# Altium schematic symbol library IntegratedCircuits.SchLib: 21 symbols
Pins are listed as number, name and electrical type; pins without a type are passive.

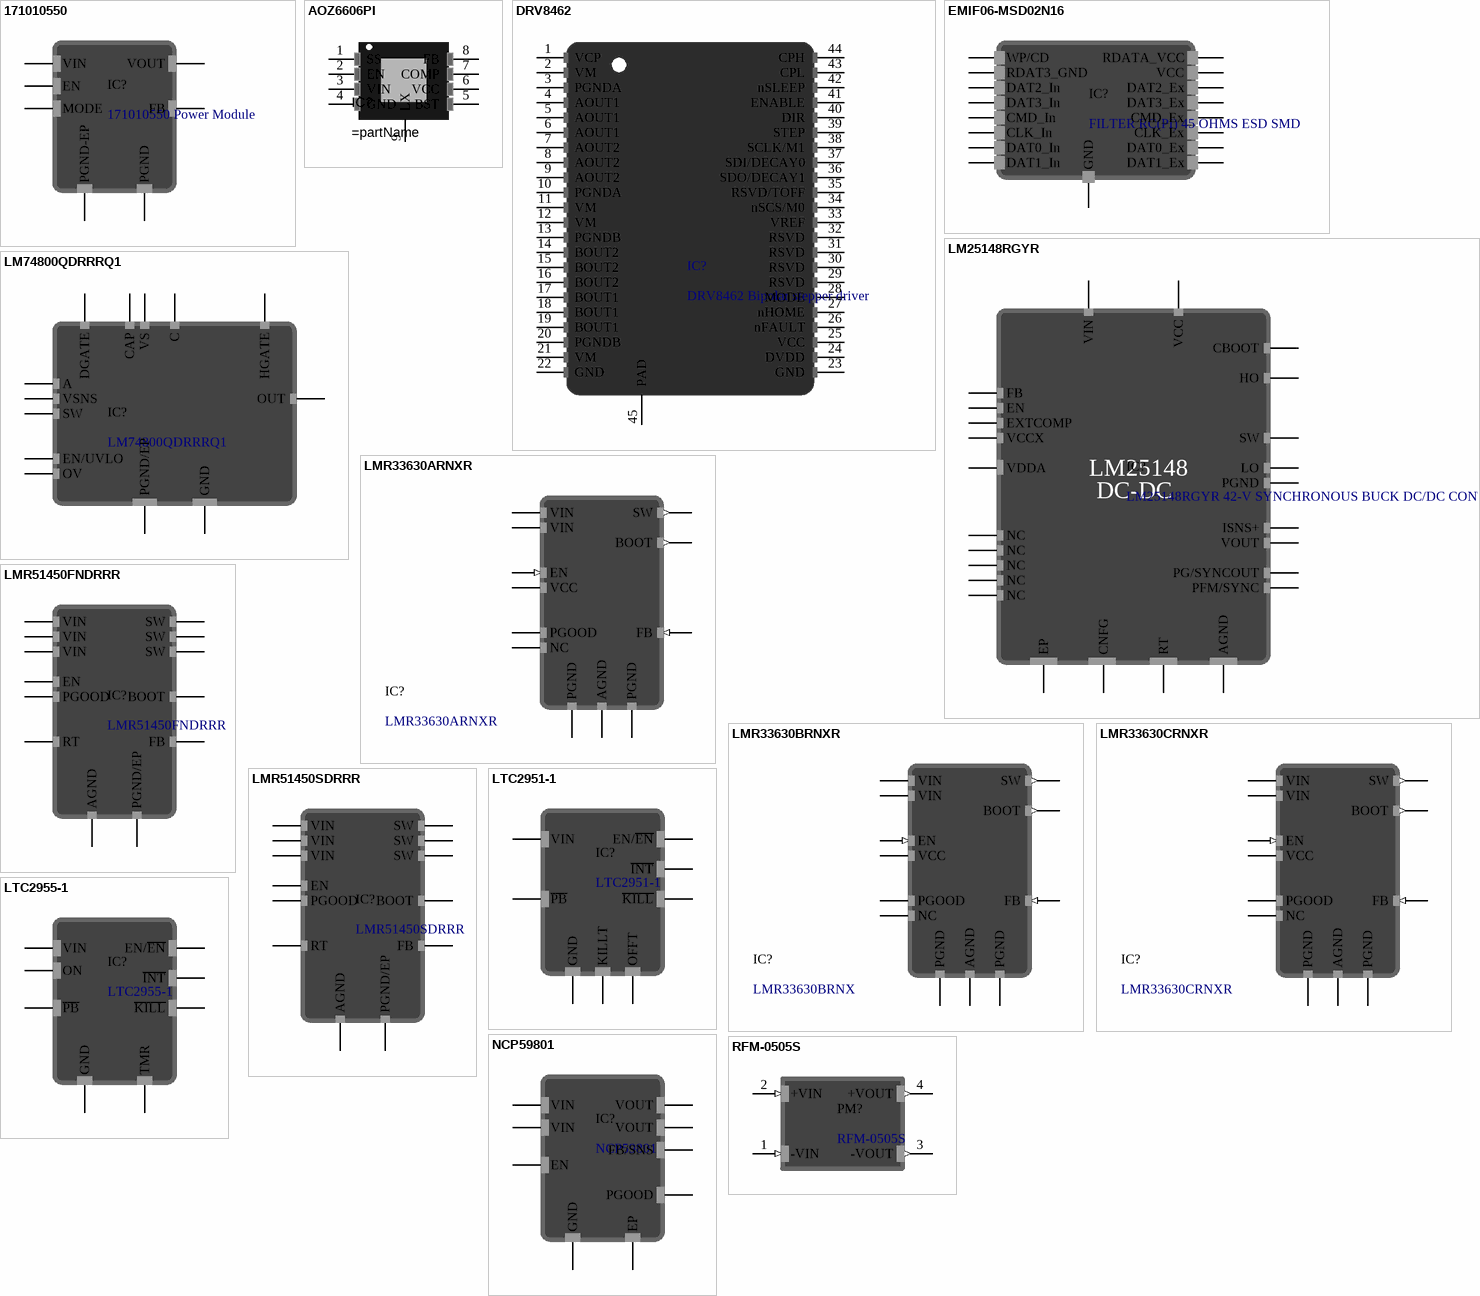
[diagram p0: symbols 171010550 to RFM-0505S]

## 171010550
designator IC?, comment 171010550 Power Module
Non-Isolated PoL Module DC DC Converter 1 Output 0.8 ~ 5.5V 1.2A 2.5V - 5.5V Input; DigiKey Part Number: 732-171010550CT-ND; Mouser Part Number: 710-171010550; ComponentLink1Description: DigiKey; ComponentLink1URL: https://www.digikey.com/en/products/detail/w%C3%BCrth-elektronik/171010550/10468263; ComponentLink2Description: Mouser; ComponentLink2URL: https://eu.mouser.com/ProductDetail/Wurth-Elektronik/171010550?qs=d0WKAl%252BL4KaovukkXP8RVA%3D%3D; Manufacturer Product Number: 171010550
footprint 171010550
pins: 1 FB, 2 MODE, 3 EN, 4 VIN, 5 PGND, 6 VOUT, EP PGND-EP

## AOZ6606PI
designator IC?
Buck Switching Regulator IC Positive Adjustable 0.8V 1 Output 6A 8-SOIC (0.154", 3.90mm Width) Exposed Pad; Manufacturer Product Number: AOZ6606PI; DigiKey Part Number: 785-1854-1-ND; ComponentLink1Description: DigiKey; ComponentLink1URL: https://www.digikey.com/en/products/detail/alpha-omega-semiconductor-inc/AOZ6606PI/10258150?s=N4IgTCBcDaIIIHkBaA2FAGFAFAkiAugL5A
footprint SOP127P600X170_HS-9N (SOP, 8-Leads, Body 4.90x3.90mm, Pitch 1.27mm, Thermal Pad 3.60x2.61mm, IPC Medium Density)
pins: 1 SS, 2 EN, 3 VIN, 4 GND, 5 BST, 6 VCC, 7 COMP, 8 FB, 9 LX

## DRV8462
designator IC?, comment DRV8462 Bipolar stepper driver
65-V, 10-A, DUAL H-BRIDGE STEPPER DRIVER; Manufacturer Product Number: DRV8462DDWR; Digikey part number: 296-DRV8462DDWRTR-ND; ComponentLink1Description: DigiKey; ComponentLink1URL: https://www.digikey.com/en/products/detail/texas-instruments/DRV8462DDWR/17395001?s=N4IgTCBcDaICYCcBuAOALANggXQL5A; Mouser part number: 595-DRV8462DDWR; ComponentLink2Description: Mouser; ComponentLink2URL: https://eu.mouser.com/ProductDetail/Texas-Instruments/DRV8462DDWR?qs=rQFj71Wb1eVexvYNsDfnvA%3D%3D; ComponentLink3Description: datasheet; ComponentLink3URL: https://www.ti.com/lit/ds/symlink/drv8462.pdf
footprint TSOP64P810X120_HS-45N (TSOP, 44-Leads, Body 14.00x6.10mm, Pitch 0.64mm, Thermal Pad 8.00x3.80mm, IPC Medium Density)
pins: 1 VCP, 2 VM, 3 PGNDA, 4 AOUT1, 5 AOUT1, 6 AOUT1, 7 AOUT2, 8 AOUT2, 9 AOUT2, 10 PGNDA, 11 VM, 12 VM, 13 PGNDB, 14 BOUT2, 15 BOUT2, 16 BOUT2, 17 BOUT1, 18 BOUT1, 19 BOUT1, 20 PGNDB, 21 VM, 22 GND, 23 GND, 24 DVDD, 25 VCC, 26 nFAULT, 27 nHOME, 28 MODE, 29 RSVD, 30 RSVD, 31 RSVD, 32 RSVD, 33 VREF, 34 nSCS/M0, 35 RSVD/TOFF, 36 SDO/DECAY1, 37 SDI/DECAY0, 38 SCLK/M1, 39 STEP, 40 DIR, 41 ENABLE, 42 nSLEEP, 43 CPL, 44 CPH, 45 PAD

## EMIF06-MSD02N16
designator IC?, comment FILTER RC(PI) 45 OHMS ESD SMD
RC (Pi) EMI Filter 2nd Order Low Pass 6 Channel R = 45Ohms, C = 20pF (Total) 16-UFDFN Exposed Pad; Manufacturer Product Number: EMIF06-MSD02N16; Digikey Part Number: 497-8751-1-ND; ComponentLink1Description: DigiKey; ComponentLink1URL: https://www.digikey.com/en/products/detail/stmicroelectronics/EMIF06-MSD02N16/2043592?s=N4IgTCBcDaIKIFkCSAxADANgLQIMoBE0wA5ARgxAF0BfIA
footprint Micro QFN 3.5x1.2-16L
pins: 1 WP/CD, 2 RDAT3_GND, 3 DAT2_In, 4 DAT3_In, 5 CMD_In, 6 CLK_In, 7 DAT0_In, 8 DAT1_In, 9 DAT1_Ex, 10 DAT0_Ex, 11 CLK_Ex, 12 CMD_Ex, 13 DAT3_Ex, 14 DAT2_Ex, 15 VCC, 16 RDATA_VCC, 17 GND

## LM25148RGYR
designator IC?, comment LM25148RGYR 42-V SYNCHRONOUS BUCK DC/DC CONT
Buck Regulator Positive Output Step-Down DC-DC Controller IC 24-VQFN (5.5x3.5); DigiKey Part Number: 296-LM25148RGYRCT-ND; Mouser Part Number: 595-LM25148RGYR; ComponentLink1Description: DigiKey; ComponentLink1URL: https://www.digikey.com/en/products/detail/texas-instruments/LM25148RGYR/15857124; ComponentLink2Description: Mouser; ComponentLink2URL: https://eu.mouser.com/ProductDetail/Texas-Instruments/LM25148RGYR?qs=doiCPypUmgEViljGB5jAZw%3D%3D; Manufacturer Product Number: LM25148RGYR
footprint VQFN25_RGY_TEX
pins: 1 NC, 2 NC, 3 CNFG, 4 RT, 5 EXTCOMP, 6 FB, 7 AGND, 8 VDDA, 9 VCC, 10 PGND, 11 LO, 12 VIN, 13 HO, 14 SW, 15 CBOOT, 16 VCCX, 17 PG/SYNCOUT, 18 PFM/SYNC, 19 EN, 20 ISNS+, 21 VOUT, 22 NC, 23 NC, 24 NC, 25 EP
text: LM25148; DC-DC

## LM74800QDRRRQ1
designator IC?
OR Controller N+1 ORing Controller N-Channel 1:1 12-WSON (3x3); DigiKey Part Number: 296-LM74800QDRRRQ1CT-ND; ComponentLink1Description: DigiKey; ComponentLink1URL: https://www.digikey.com/en/products/detail/texas-instruments/LM74800QDRRRQ1/13627158; Mouser Part Number: 595-LM74800QDRRRQ1; ComponentLink2Description: Mouser; ComponentLink2URL: https://eu.mouser.com/ProductDetail/Texas-Instruments/LM74800QDRRRQ1?qs=KUoIvG%2F9IlYNgS7D9vQjYA%3D%3D; Manufacturer Product Number: LM74800QDRRRQ1
footprint SON50P300X80_HS-13N (SON, 12-Leads, Body 3.00x3.00mm, Pitch 0.50mm, Thermal Pad 2.50x1.30mm, IPC Medium Density)
pins: 1 DGATE, 2 A, 3 VSNS, 4 SW, 5 OV, 6 EN/UVLO, 7 GND, 8 HGATE, 9 OUT, 10 VS, 11 CAP, 12 C, 13 PGND/EP

## LMR33630ARNXR
designator IC?
Buck Switching Regulator IC Positive Adjustable 1V 1 Output 3A 12-VFQFN; DigiKey Part Number: 296-49764-1-ND; ComponentLink1Description: DigiKey; ComponentLink1URL: https://www.digikey.com/en/products/detail/texas-instruments/LMR33630ARNXR/9356577; Mouser Part Number: 595-LMR33630ARNXR; ComponentLink2Description: Mouser; ComponentLink2URL: https://eu.mouser.com/ProductDetail/Texas-Instruments/LMR33630ARNXR?qs=55YtniHzbhBobt6bGtLStw%3D%3D; Manufacturer Product Number: LMR33630ARNXR
footprint VQFN-HR
pins: 1 PGND (power), 2 VIN (power), 3 NC (hiz), 4 BOOT (out), 5 VCC (power), 6 AGND (power), 7 FB (in), 8 PGOOD (oc), 9 EN (in), 10 VIN (power), 11 PGND (power), 12 SW (out)

## LMR33630BRNXR
designator IC?, comment LMR33630BRNX
Buck Switching Regulator IC Positive Adjustable 1V 1 Output 3A 12-VFQFN; Manufacturer Product Number: LMR33630BRNXR; DigiKey Part Number: 296-49766-1-ND; ComponentLink1Description: DigiKey; ComponentLink1URL: https://www.digikey.com/en/products/detail/texas-instruments/LMR33630BRNXR/9356578; Mouser Part Number: 595-LMR33630BRNXR; ComponentLink2Description: Mouser; ComponentLink2URL: https://eu.mouser.com/ProductDetail/Texas-Instruments/LMR33630BRNXR?qs=55YtniHzbhB54oY1%2FGBdBQ%3D%3D; JLCPCB Part Number: C2071384
footprint VQFN-HR
pins: 1 PGND (power), 2 VIN (power), 3 NC (hiz), 4 BOOT (out), 5 VCC (power), 6 AGND (power), 7 FB (in), 8 PGOOD (oc), 9 EN (in), 10 VIN (power), 11 PGND (power), 12 SW (out)

## LMR33630CRNXR
designator IC?
Buck Switching Regulator IC Positive Adjustable 1V 1 Output 3A 12-PowerVFQFN; DigiKey Part Number: 296-49768-1-ND; ComponentLink1Description: DigiKey; ComponentLink1URL: https://www.digikey.com/en/products/detail/texas-instruments/LMR33630CRNXR/9356579; Mouser Part Number: 595-LMR33630CRNXR; ComponentLink2Description: Mouser; ComponentLink2URL: https://eu.mouser.com/ProductDetail/Texas-Instruments/LMR33630CRNXR?qs=55YtniHzbhDkvgzAIyvpfQ%3D%3D; Manufacturer Product Number: LMR33630CRNXR
footprint VQFN-HR
pins: 1 PGND (power), 2 VIN, 3 NC (hiz), 4 BOOT (out), 5 VCC (power), 6 AGND (power), 7 FB (in), 8 PGOOD (oc), 9 EN (in), 10 VIN, 11 PGND (power), 12 SW (out)

## LMR51450FNDRRR
designator IC?
Buck Switching Regulator IC Positive Adjustable 0.8V 1 Output 5A 12-WFDFN Exposed Pad; DigiKey Part Number: 296-LMR51450FNDRRRCT-ND; ComponentLink1Description: DigiKey; ComponentLink1URL: https://www.digikey.com/en/products/detail/texas-instruments/LMR51450FNDRRR/17395218; Mouser Part Number: 595-LMR51450FNDRRR; ComponentLink2Description: Mouser; ComponentLink2URL: https://eu.mouser.com/ProductDetail/Texas-Instruments/LMR51450FNDRRR?qs=rQFj71Wb1eVWWBj0Ni4OAA%3D%3D; Manufacturer Product Number: LMR51450FNDRRR; JLCPCB Part Number: C5782413
footprint SON50P300X80_HS-13N (SON, 12-Leads, Body 3.00x3.00mm, Pitch 0.50mm, Thermal Pad 2.50x1.30mm, IPC Medium Density)
pins: 1 SW, 2 SW, 3 SW, 4 BOOT, 5 PGOOD, 6 RT, 7 FB, 8 AGND, 9 EN, 10 VIN, 11 VIN, 12 VIN, 13 PGND/EP

## LMR51450SDRRR
designator IC?
Buck Switching Regulator IC Positive Adjustable 0.8V 1 Output 5A 12-WFDFN Exposed Pad; DigiKey Part Number: 296-LMR51450SDRRRCT-ND; ComponentLink1Description: DigiKey; ComponentLink1URL: https://www.digikey.com/en/products/detail/texas-instruments/LMR51450SDRRR/17394946; Mouser Part Number: 595-LMR51450SDRRR; ComponentLink2Description: Mouser; ComponentLink2URL: https://eu.mouser.com/ProductDetail/Texas-Instruments/LMR51450SDRRR?qs=rQFj71Wb1eUvKinsjoLiUA%3D%3D; Manufacturer Product Number: LMR51450SDRRR
footprint SON50P300X80_HS-13N (SON, 12-Leads, Body 3.00x3.00mm, Pitch 0.50mm, Thermal Pad 2.50x1.30mm, IPC Medium Density)
pins: 1 SW, 2 SW, 3 SW, 4 BOOT, 5 PGOOD, 6 RT, 7 FB, 8 AGND, 9 EN, 10 VIN, 11 VIN, 12 VIN, 13 PGND/EP

## LTC2951-1
designator IC?
Power Supply Controller Push Button, On/Off Controller TSOT-23-8; Manufacturer Product Number: LTC2951CTS8-1#TRMPBF; DigiKey Part Number: 505-LTC2951CTS8-1#TRMPBFCT-ND; ComponentLink1Description: DigiKey; ComponentLink1URL: https://www.digikey.com/en/products/detail/analog-devices-inc/LTC2951CTS8-1-TRMPBF/1620485; Mouser Part Number: 584-C2951CTS8-1TMPF; ComponentLink2Description: Mouser; ComponentLink2URL: https://eu.mouser.com/ProductDetail/Analog-Devices/LTC2951CTS8-1TRMPBF?qs=hVkxg5c3xu8aoLmrY09Smg%3D%3D
footprint TSOP65P280X100-8N (TSOP, 8-Leads, Body 2.90x1.63mm, Pitch 0.65mm, IPC Medium Density)
pins: 1 VIN, 2 ~{PB}, 3 KILLT, 4 GND (power), 5 ~{INT}, 6 EN/~{EN} (oc), 7 OFFT, 8 ~{KILL}

## LTC2955-1
designator IC?
Power Supply Controller Push Button, On/Off Controller TSOT-23-8; Manufacturer Product Number: LTC2955CTS8-1#TRMPBF; Alternate Part: LTC2955CTS8-1#TRPBF; DigiKey Part Number: 505-LTC2955CTS8-1#TRMPBFCT-ND; ComponentLink1Description: DigiKey; ComponentLink1URL: https://www.digikey.com/en/products/detail/analog-devices-inc/LTC2955CTS8-1-TRMPBF/3065178; Mouser Part Number: 584-C2955CTS8-1TMPF; ComponentLink2Description: Mouser; ComponentLink2URL: https://eu.mouser.com/ProductDetail/Analog-Devices/LTC2955CTS8-1TRMPBF?qs=hVkxg5c3xu%252B6Fq1Ir3bkGg%3D%3D; ComponentLink3Description: DigiKey Alternate Part; ComponentLink3URL: https://www.digikey.com/en/products/detail/analog-devices-inc/LTC2955CTS8-1-TRPBF/3062004; JLCPCB Part Number: C683790
footprint TSOP65P280X100-8N (TSOP, 8-Leads, Body 2.90x1.63mm, Pitch 0.65mm, IPC Medium Density)
pins: 1 ON, 2 ~{KILL}, 3 TMR, 4 GND (power), 5 ~{PB}, 6 VIN, 7 EN/~{EN} (oc), 8 ~{INT}

## NCP59801
designator IC?
Linear Voltage Regulator IC Positive Fixed 1 Output 1A 8-DFNW (3x3); Manufacturer Product Number: NCP59801CML330TCG; DigiKey Part Number: 488-NCP59801CML330TCGCT-ND; ComponentLink1Description: DigiKey; ComponentLink1URL: https://www.digikey.com/en/products/detail/onsemi/NCP59801CML330TCG/17868225; Mouser Part Number: 863-CP59801CML330TCG; ComponentLink2Description: Mouser; ComponentLink2URL: https://eu.mouser.com/ProductDetail/onsemi/NCP59801CML330TCG?qs=vvQtp7zwQdM1Va2lUiPUkg%3D%3D; JLCPCB Part Number: C5209184
footprint DFNW8_3x3 (8-Leads, Body 3.00x3.00mm, Pitch 0.65mm, Thermal Pad 2.40x1.52mm, IPC Medium Density)
pins: 1 VOUT (oc), 2 VOUT, 3 FB/SNS, 4 GND (power), 5 EN, 6 PGOOD, 7 VIN, 8 VIN, 9 EP

## RFM-0505S
designator PM?
Isolated Module DC DC Converter 1 Output 5V 200mA - 5V Input; DigiKey Part Number: 945-3159-ND; Mouser Part Number: 919-RFM-0505S; Manufacturer Product Number: RFM-0505S; JLCPCB Part Number: C22371855; ComponentLink1Description: DigiKey; ComponentLink1URL: https://www.digikey.com/en/products/detail/recom-power/RFM-0505S/8550767; ComponentLink2Description: Mouser; ComponentLink2URL: https://eu.mouser.com/ProductDetail/RECOM-Power/RFM-0505S?qs=lYGu3FyN48dRVYKTH5ipqg%3D%3D
footprint CONV_RFM-0505S
pins: 1 -VIN (in), 2 +VIN (in), 3 -VOUT (out), 4 +VOUT (out)

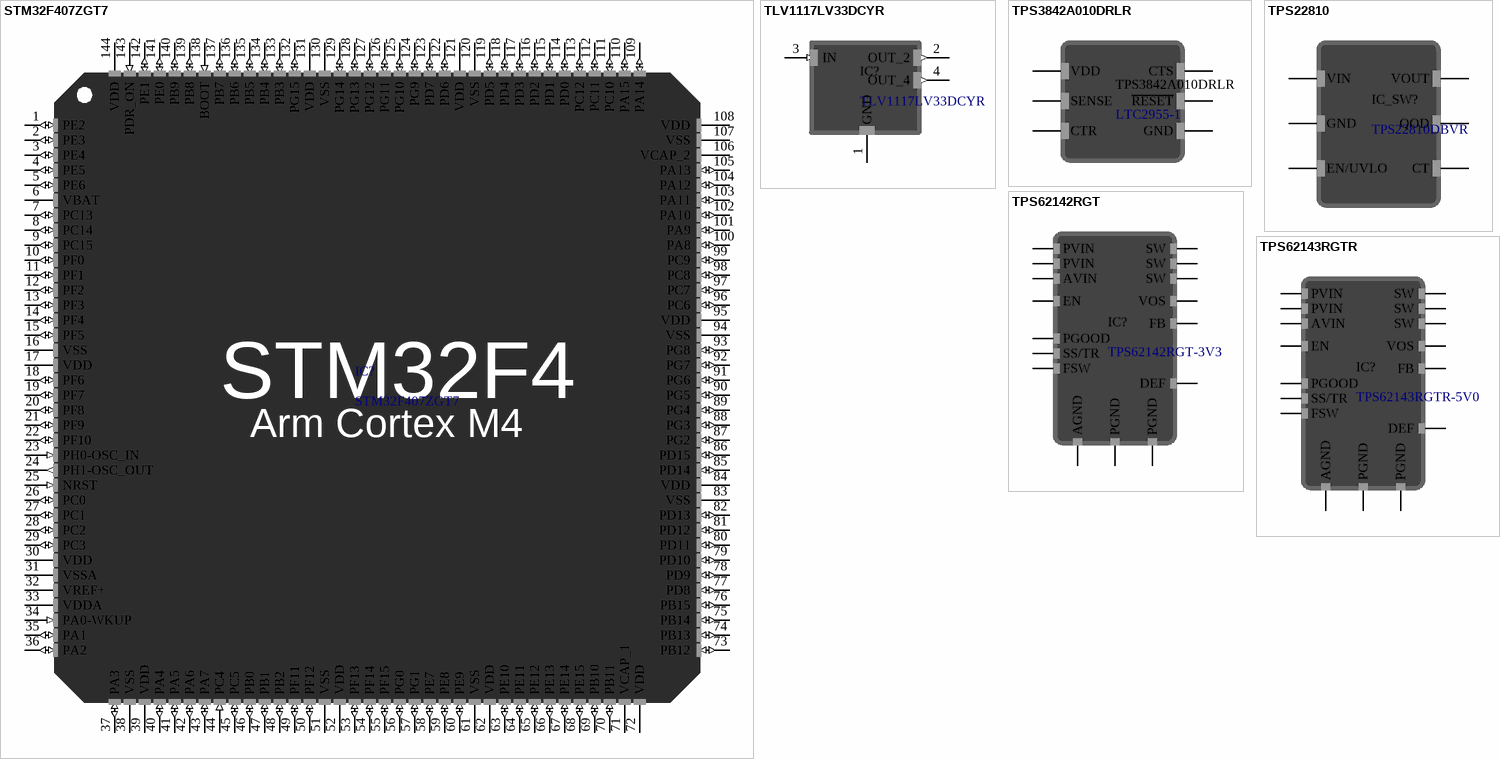
[diagram p1: symbols STM32F407ZGT7 to TPS62143RGTR]

## STM32F407ZGT7
designator IC?
ARM® Cortex®-M4 STM32F4 Microcontroller IC 32-Bit Single-Core 168MHz 1MB (1M x 8) FLASH 144-LQFP (20x20); Supplier 2: DigiKey; Supplier 1: Mouser; Supplier Part Number 1: 511-STM32F407ZGT7; Supplier 2 Part Number: 497-17439-ND; ComponentLink1Description: Supplier 2 Link; ComponentLink1URL: https://www.digikey.com/en/products/detail/stmicroelectronics/STM32F407ZGT7/4357413?s=N4IgTCBcDaIMoBUCyBmMAxALABgOwC0BxBXEAXQF8g; ComponentLink2Description: Supplier 1 Link; ComponentLink2URL: https://eu.mouser.com/ProductDetail/STMicroelectronics/STM32F407ZGT7?qs=%2F%2FVjtefuLz5lDAduqBtUGQ%3D%3D; Manufacturer Product Number: STM32F407ZGT7
footprint TSQFP50P2260X2260X160-144N (TSQFP, 144-Leads, Body 17.85x17.85mm, Pitch 0.50mm, IPC Medium Density)
pins: 1 PE2 (io), 2 PE3 (io), 3 PE4 (io), 4 PE5 (io), 5 PE6 (io), 6 VBAT (power), 7 PC13 (io), 8 PC14 (io), 9 PC15 (io), 10 PF0 (io), 11 PF1 (io), 12 PF2 (io), 13 PF3 (io), 14 PF4 (io), 15 PF5 (io), 16 VSS (power), 17 VDD (power), 18 PF6 (io), 19 PF7 (io), 20 PF8 (io), 21 PF9 (io), 22 PF10 (io), 23 PH0-OSC_IN (in), 24 PH1-OSC_OUT (out), 25 NRST (in), 26 PC0 (io), 27 PC1 (io), 28 PC2 (io), 29 PC3 (io), 30 VDD (power), 31 VSSA (power) "analog ground", 32 VREF+ (power), 33 VDDA (power), 34 PA0-WKUP (in), 35 PA1 (io), 36 PA2 (io), 37 PA3 (io), 38 VSS (power), 39 VDD (power), 40 PA4 (io), 41 PA5 (io), 42 PA6 (io), 43 PA7 (io), 44 PC4 (in), 45 PC5 (io), 46 PB0 (io), 47 PB1 (io), 48 PB2 (io), 49 PF11 (io), 50 PF12 (io), 51 VSS (power), 52 VDD (power), 53 PF13 (io), 54 PF14 (io), 55 PF15 (io), 56 PG0 (io), 57 PG1 (io), 58 PE7 (io), 59 PE8 (io), 60 PE9 (io), 61 VSS (power), 62 VDD (power), 63 PE10 (io), 64 PE11 (io), 65 PE12 (io), 66 PE13 (io), 67 PE14 (io), 68 PE15 (io), 69 PB10 (io), 70 PB11 (io), 71 VCAP_1 (power), 72 VDD (power), 73 PB12 (io), 74 PB13 (io), 75 PB14 (io), 76 PB15 (io), 77 PD8 (io), 78 PD9 (io), 79 PD10 (io), 80 PD11 (io), 81 PD12 (io), 82 PD13 (io), 83 VSS (power), 84 VDD (power), 85 PD14 (io), 86 PD15 (io), 87 PG2 (io), 88 PG3 (io), 89 PG4 (io), 90 PG5 (io), 91 PG6 (io), 92 PG7 (io), 93 PG8 (io), 94 VSS (power), 95 VDD (power), 96 PC6 (io), 97 PC7 (io), 98 PC8 (io), 99 PC9 (io), 100 PA8 (io), 101 PA9 (io), 102 PA10 (io), 103 PA11 (io), 104 PA12 (io), 105 PA13 (io), 106 VCAP_2 (power), 107 VSS (power), 108 VDD (power), 109 PA14 (io), 110 PA15 (io), 111 PC10 (io), 112 PC11 (io), 113 PC12 (io), 114 PD0 (io), 115 PD1 (io), 116 PD2 (io), 117 PD3 (io), 118 PD4 (io), 119 PD5 (io), 120 VSS (power), 121 VDD (power), 122 PD6 (io), 123 PD7 (io), 124 PG9 (io), 125 PG10 (io), 126 PG11 (io), 127 PG12 (io), 128 PG13 (io), 129 PG14 (io), 130 VSS (power), 131 VDD (power), 132 PG15 (io), 133 PB3 (io), 134 PB4 (io), 135 PB5 (io), 136 PB6 (io), 137 PB7 (io), 138 BOOT (in), 139 PB8 (io), 140 PB9 (io), 141 PE0 (io), 142 PE1 (io), 143 PDR_ON (in), 144 VDD (power)
text: STM32F4; Arm Cortex M4; SPI / INTERFACE

## TLV1117LV33DCYR
designator IC?
Linear Voltage Regulator IC Positive Fixed 1 Output 1A SOT-223-4; DigiKey Part Number: 296-28778-1-ND; ComponentLink1Description: DigiKey; ComponentLink1URL: https://www.digikey.com/en/products/detail/texas-instruments/TLV1117LV33DCYR/2666508; Mouser Part Number: 595-TLV1117LV33DCYR; ComponentLink2Description: Mouser; ComponentLink2URL: https://eu.mouser.com/ProductDetail/Texas-Instruments/TLV1117LV33DCYR?qs=tEz3BkPb1rwzXMb8FiWhow%3D%3D; Manufacturer Product Number: TLV1117LV33DCYR; JLCPCB Part Number: C15578
footprint VREG_TLV1117LV33DCYR
pins: 1 GND (power), 2 OUT_2 (out), 3 IN (in), 4 OUT_4 (out)

## TPS3842A010DRLR
designator TPS3842A010DRLR, comment LTC2955-1
Supervisor Open Drain or Open Collector 1 Channel SOT-563; Manufacturer Product Number: TPS3842A010DRLR; DigiKey Part Number: 296-TPS3842A010DRLRCT-ND; ComponentLink1Description: DigiKey; ComponentLink1URL: https://www.digikey.com/en/products/detail/texas-instruments/TPS3842A010DRLR/25619018; Mouser Part Number: 595-TPS3842A010DRLR; ComponentLink2Description: Mouser; ComponentLink2URL: https://eu.mouser.com/ProductDetail/Texas-Instruments/TPS3842A010DRLR?qs=%252BXxaIXUDbq18rMDvlBdz2w%3D%3D; JLCPCB Part Number: C44545513
footprint SOT563 (SOTFL, 6-Leads, Body 1.60x1.60mm, Pitch 0.50mm, IPC Medium Density)
pins: 1 VDD, 2 SENSE, 3 ~{RESET}, 4 CTS, 5 GND, 6 CTR (oc)

## TPS22810
designator IC_SW?, comment TPS22810DBVR
Power Switch/Driver 1:1 N-Channel 2A SOT-23-6; DigiKey Part Number: 296-45297-1-ND; Mouser Part Number: 595-TPS22810DBVR; ComponentLink1Description: DigiKey; ComponentLink1URL: https://www.digikey.com/en/products/detail/texas-instruments/TPS22810DBVR/6595640; ComponentLink2Description: Mouser; ComponentLink2URL: https://eu.mouser.com/ProductDetail/Texas-Instruments/TPS22810DBVR?qs=34RfhUjJmKcFqeJVMZZhPA%3D%3D; Manufacturer Product Number: TPS22810DBVR
footprint SOT95P280X145-6N (SOT23, 6-Leads, Body 2.90x2.80mm, Pitch 0.95mm, IPC Medium Density)
pins: 1 VIN, 2 GND, 3 EN/UVLO, 4 CT, 5 QOD, 6 VOUT

## TPS62142RGT
designator IC?, comment TPS62142RGT-3V3
Buck Switching Regulator IC Positive Fixed 3.3V 1 Output 2A 16-VFQFN Exposed Pad; Manufacturer Product Number: TPS62142RGTT; DigiKey Part Number: 296-29940-1-ND; Mouser Part Number: 595-TPS62142RGTT; ComponentLink1Description: DigiKey; ComponentLink1URL: https://www.digikey.com/en/products/detail/texas-instruments/TPS62142RGTT/2786730; ComponentLink2Description: Mouser; ComponentLink2URL: https://eu.mouser.com/ProductDetail/Texas-Instruments/TPS62142RGTT?qs=gXEV9p%2FxLgdBrEoz0pTJSA%3D%3D
footprint QFN50P300X300X100_HS-17N (QFN, 16-Leads, Body 3.00x3.00mm, Pitch 0.50mm, Thermal Pad 1.68x1.68mm, IPC Medium Density)
pins: 1 SW, 2 SW, 3 SW, 4 PGOOD, 5 FB, 6 AGND, 7 FSW, 8 DEF, 9 SS/TR, 10 AVIN, 11 PVIN, 12 PVIN, 13 EN, 14 VOS, 15 PGND, 16 PGND

## TPS62143RGTR
designator IC?, comment TPS62143RGTR-5V0
Buck Switching Regulator IC Positive Fixed 5V 1 Output 2A 16-VFQFN Exposed Pad; DigiKey Part Number: 296-39448-1-ND; Mouser Part Number: 595-TPS62143RGTR; ComponentLink1Description: DigiKey; ComponentLink1URL: https://www.digikey.com/en/products/detail/texas-instruments/TPS62143RGTR/2833437; ComponentLink2Description: Mouser; ComponentLink2URL: https://eu.mouser.com/ProductDetail/Texas-Instruments/TPS62143RGTR?qs=gXEV9p%2FxLgeSGPjUReaV9A%3D%3D; Manufacturer Product Number: TPS62143RGTR
footprint QFN50P300X300X100_HS-17N (QFN, 16-Leads, Body 3.00x3.00mm, Pitch 0.50mm, Thermal Pad 1.68x1.68mm, IPC Medium Density)
pins: 1 SW, 2 SW, 3 SW, 4 PGOOD, 5 FB, 6 AGND, 7 FSW, 8 DEF, 9 SS/TR, 10 AVIN, 11 PVIN, 12 PVIN, 13 EN, 14 VOS, 15 PGND, 16 PGND